# Altium footprint library Resistors_CPF-0805.PcbLib: 2 footprints
Each footprint in its own frame and in the unit in brackets; x right, y up, seen from the top. Pads: shape width x height; smd on the part's side, far side on the other; paste and mask are expansions set on the pad; w line width, h text height; cw(c..) or ccw(c..) is an arc to the next point about the centre after c.
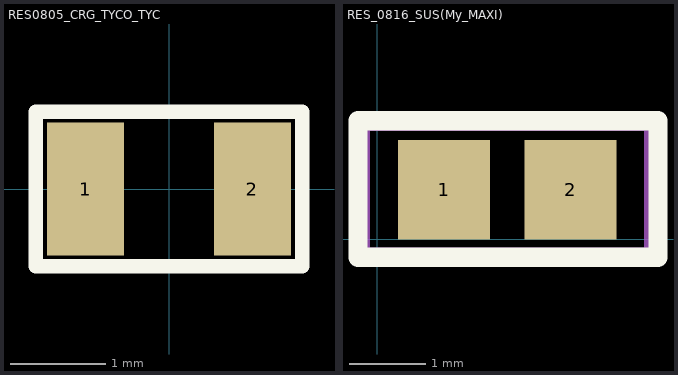
[diagram p0: the footprints below, top view; thin cyan lines are the x and y axes]

## RES0805_CRG_TYCO_TYC [mil]
pads (2):
  rect 32x55 smd paste+0 mask+0: 1(-34.5,0) 2(34.5,0)
Top Overlay:
  lines w6: -55,-32 55,-32 55,32 -55,32 -55,-32
3D body "Resistor_0805 (2012).STEP": height 22.24, standoff 0, extent -39.37,-29.29 39.37,20

## RES_0816_SUS(My_MAXI) [mm]
pads (2):
  rect 1.2x1.3 smd paste+0 mask+0: 1(0.871,0.65) 2(2.525,0.65)
Top Overlay:
  lines w0.254: -0.252,-0.236 -0.252,1.55 3.666,1.55 3.666,-0.236 -0.252,-0.236
  text ".Designator" at -0.312,-0.942 h0.8
Top Component Outline:
  lines w0.254: -0.225,-0.236 3.611,-0.236 3.611,1.543 -0.225,1.543 -0.225,-0.236
3D body "Resistor_0805 (2012).STEP": height 0.56, standoff -0.01, extent 0.698,0.019 2.698,1.271